# Altium footprint library Diver Board V1.0.PcbLib: 20 footprints (part 2 of 2)
Each footprint in its own frame and in the unit in brackets; x right, y up, seen from the top. Pads: shape width x height; smd on the part's side, far side on the other; paste and mask are expansions set on the pad; w line width, h text height; cw(c..) or ccw(c..) is an arc to the next point about the centre after c.
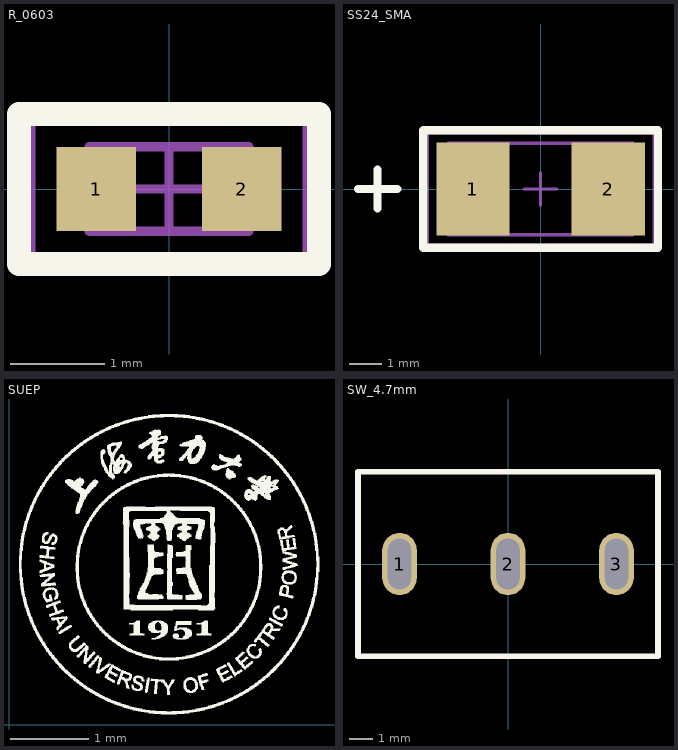
[diagram p1: the footprints below, top view; thin cyan lines are the x and y axes]

## R_0603 [mm]
pads (2):
  rect 0.85x0.9 smd: 1(-0.775,0) 2(0.775,0)
Top Overlay:
  lines w0.254: -1.6,-0.8 -1.6,0.8 1.6,0.8 1.6,-0.8 -1.6,-0.8
Assembly Top:
  lines w0.1: -0.85,-0.45 -0.85,0.45 0.85,0.45 0.85,-0.45 -0.85,-0.45
Courtyard Top:
  lines w0.05: -1.45,-0.7 -1.45,0.7 1.45,0.7 1.45,-0.7 -1.45,-0.7
  lines w0.1: -0.45,0 0.45,0 ; 0,-0.45 0,0.45
3D body "R_0603.STEP": height 0.4, standoff 0, extent -0.8,-0.4 0.8,0.4

## SS24_SMA [mm]
pads (2):
  rect 2.25x2.85 smd: 1(-2.075,0) 2(2.075,0)
Top Overlay:
  lines w0.254: -5.6,0 -4.4,0 ; -5,-0.6 -5,0.6 ; -3.6,-1.8 -3.6,1.8 3.6,1.8 3.6,-1.8 -3.6,-1.8
Assembly Top:
  lines w0.1: -2.83,-1.4 -2.83,1.4 2.83,1.4 2.83,-1.4 -2.83,-1.4
Courtyard Top:
  lines w0.05: -3.45,-1.7 -3.45,1.7 3.45,1.7 3.45,-1.7 -3.45,-1.7
  lines w0.1: -0.5,0 0.5,0 ; 0,-0.5 0,0.5
3D body "SMA.STEP": height 2.7, standoff 0, extent -2.8,-1.475 2.8,1.475

## SUEP [mm]
Top Overlay:
  drawing of 4320 lines, arcs and shapes, not listed

## SW_4.7mm [mm]
pads (3):
  oval 1.5x2.7 hole 1 slot 2.2 at 90 deg: 1(-4.7,0) 2(0,0) 3(4.7,0)
Top Overlay:
  lines w0.254: -6.5,-4 -6.5,4 6.5,4 6.5,-4 -6.5,-4
3D body: height 0.45, standoff 0, extent 5.08,2.54 5.08,2.54
3D body "SW-SPDT1.STEP": height 27.89, standoff -3.17, extent -6.35,-5.969 6.35,5.969